# Altium footprint library TE_3-794677-8.PcbLib: 1 footprints
Each footprint in its own frame and in the unit in brackets; x right, y up, seen from the top. Pads: shape width x height; smd on the part's side, far side on the other; paste and mask are expansions set on the pad; w line width, h text height; cw(c..) or ccw(c..) is an arc to the next point about the centre after c.
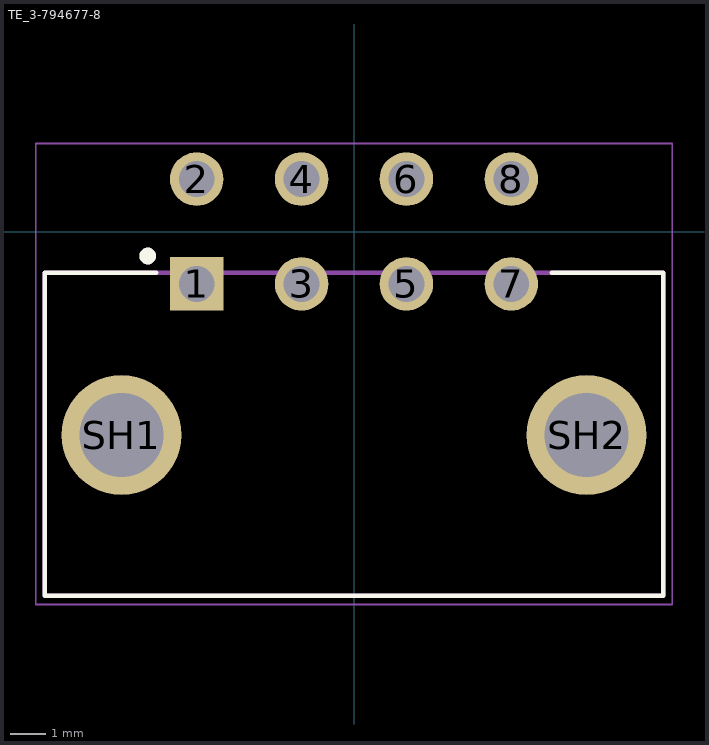
[diagram p0: the footprint, top view; thin cyan lines are the x and y axes]

## TE_3-794677-8 [mm]
pads (10):
  rect 1.53x1.53 hole 1.02: 1(-4.5,-1.5)
  round 1.53 hole 1.02: 2(-4.5,1.5) 3(-1.5,-1.5) 4(-1.5,1.5) 5(1.5,-1.5) 6(1.5,1.5) 7(4.5,-1.5) 8(4.5,1.5)
  round 3.426 hole 2.41: SH1(-6.65,-5.82) SH2(6.65,-5.82)
Top Overlay:
  circle w0.24: c-5.9,-0.7 r0.12
  lines w0.127: -5.65,-1.18 -8.85,-1.18 -8.85,-10.42 8.85,-10.42 8.85,-1.18 5.65,-1.18
Mechanical 13:
  circle w0.24: c-5.9,-0.7 r0.12
  lines w0.127: -8.85,-10.42 8.85,-10.42 8.85,-1.18 -8.85,-1.18 -8.85,-10.42
Mechanical 15:
  lines w0.05: -9.1,-10.67 9.1,-10.67 9.1,2.52 -9.1,2.52 -9.1,-10.67
3D body "c-3-794677-8-j-3d.stp": height 8.73, standoff -2.99, extent -7.976,-10.362 8.024,1.878